# Altium schematic symbol library Schlib.SchLib: 1 symbol
Pins are listed as number, name and electrical type; pins without a type are passive.

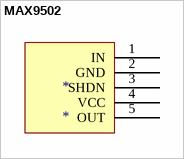
[diagram p0: symbol MAX9502]

## MAX9502
designator *
pins: 1 IN, 2 GND, 3 SHDN, 4 VCC, 5 OUT